# Altium integrated library Analog Devices Data Converters Analog-to-Digital Converters.IntLib: 2404 symbols (part 340 of 346)
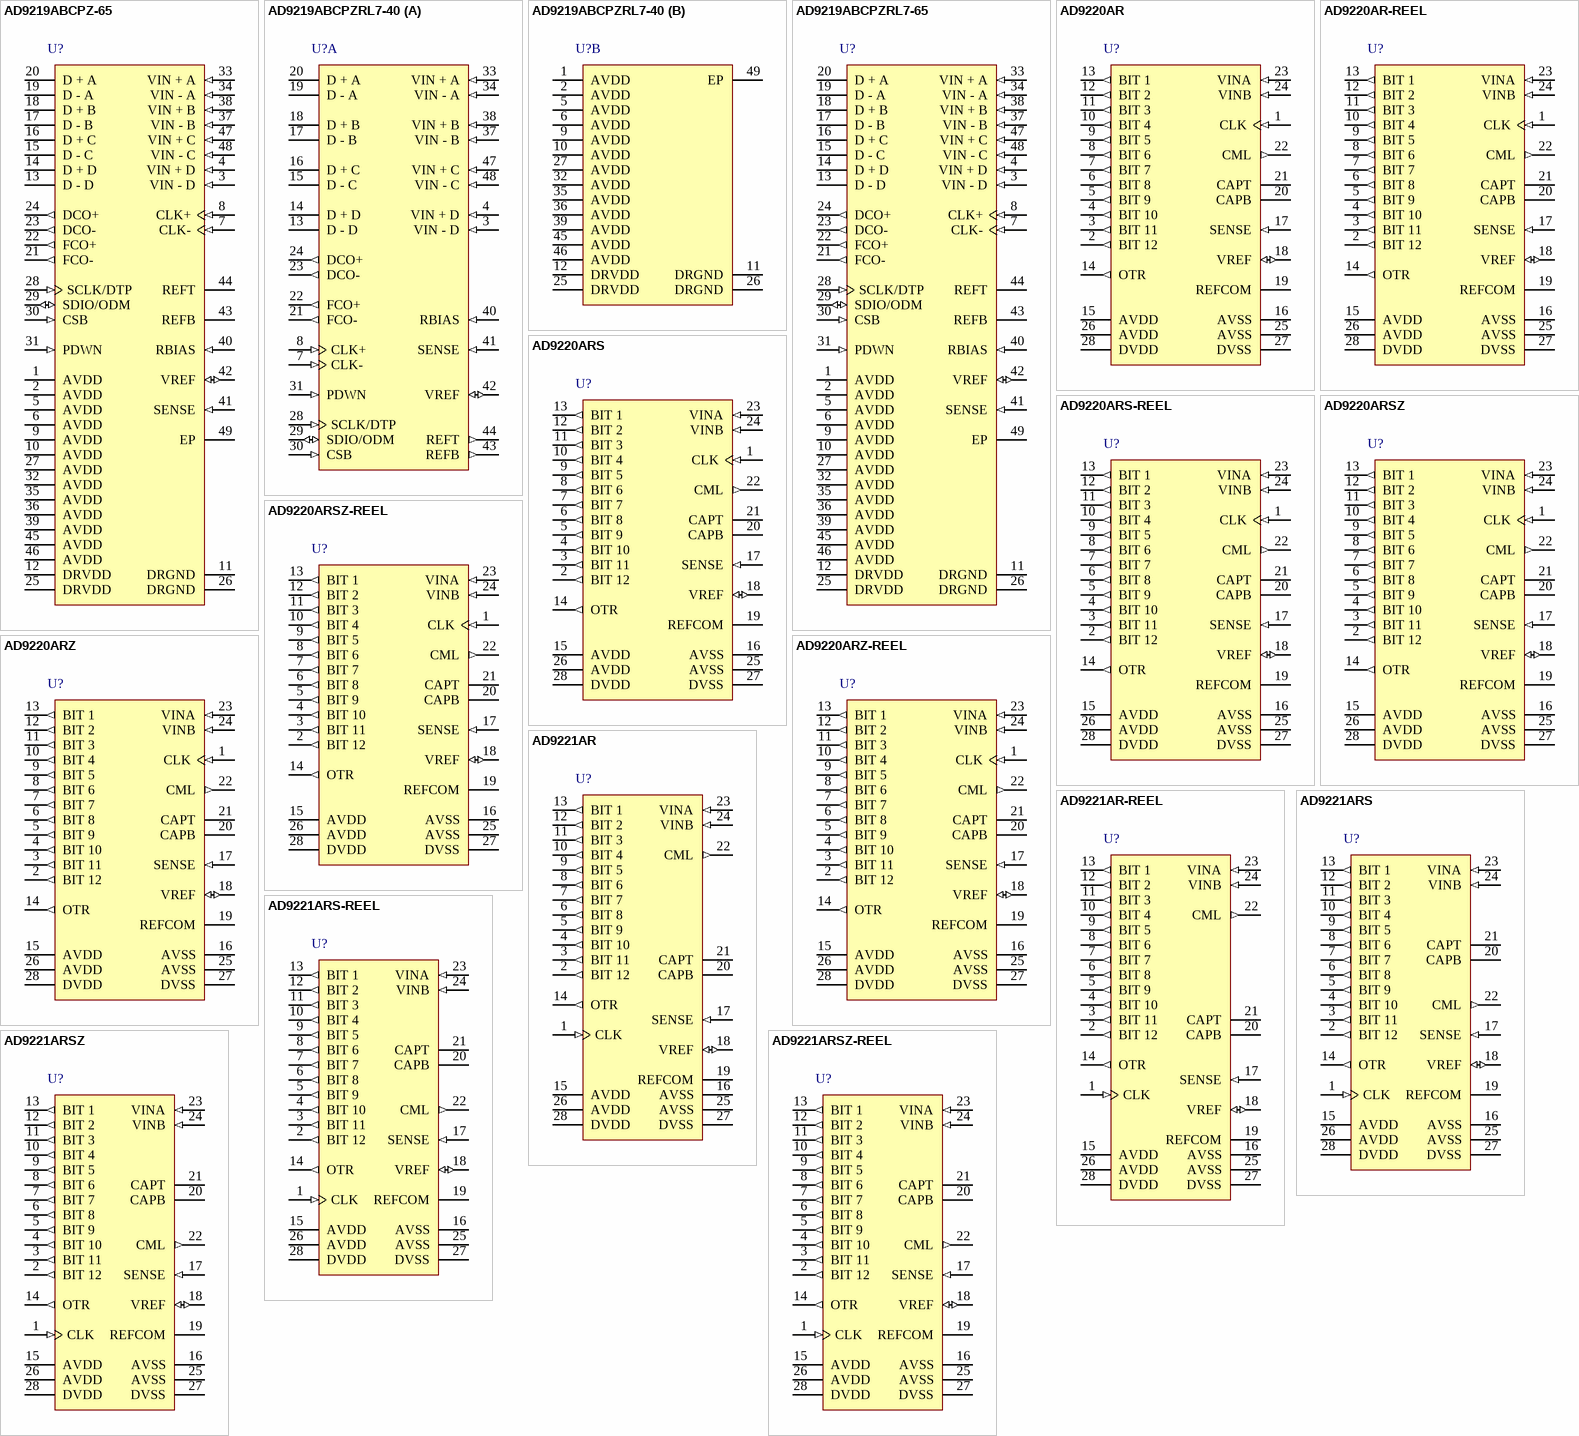
[diagram p436: symbols AD9219ABCPZ-65 to AD9221ARSZ-REEL]

## AD9220AR
designator U?
Single 12-Bit Monolithic Analog-to-Digital Converter with Parallel Interface, 10MSPS, -40 to +85 degC, RW-28, Tube; Generic Part Number: AD9220; Manufacturer: Analog Devices; PartNumber: AD9220AR; Resolution (Bits): 12; Channels: 1; Throughput Rate (SPS): 10M; Interface: Par; DatasheetVersion: Rev.E; PackageVersion: 060706-A; PackageReference: RW-28; PackageDescription: 28-Lead Standard Small Outline Package [SOIC_W]; Supplier 1: Digi-Key; Supplier Part Number 1: AD9220AR-ND; Supplier 2: Mouser; Supplier Part Number 2: 584-AD9220AR; RoHS: N; Packing: Tube; Mounting Technology: Surface Mount; Code_JEDEC: MS-013-AE; ComponentLink1Description: Manufacturer URL; ComponentLink1URL: http://www.analog.com/en/index.html; ComponentLink2Description: Datasheet; ComponentLink2URL: http://www.analog.com/static/imported-files/data_sheets/AD9221_9223_9220.pdf; ComponentLink3Description: Package Specification; ComponentLink3URL: http://www.analog.com/static/imported-files/packages/35833120341221RW_28.pdf; ComponentLink4Description: Product URL; ComponentLink4URL: http://www.analog.com/en/analog-to-digital-converters/ad-converters/ad9220/products/product.html
footprint RW-28_N (SOIC, 28-Leads, Body 17.9x7.5mm, Pitch 1.27mm, IPC Medium Density)
footprint RW-28_L (SOIC, 28-Leads, Body 17.9x7.5mm, Pitch 1.27mm, IPC High Density)
footprint RW-28_M (SOIC, 28-Leads, Body 17.9x7.5mm, Pitch 1.27mm, IPC Low Density)
pins: 1 CLK (in) "Clock Input Pin", 2 BIT 12 (out) "Least Significant Data Bit (LSB)", 3 BIT 11 (out) "Data Output Bit", 4 BIT 10 (out) "Data Output Bit", 5 BIT 9 (out) "Data Output Bit", 6 BIT 8 (out) "Data Output Bit", 7 BIT 7 (out) "Data Output Bit", 8 BIT 6 (out) "Data Output Bit", 9 BIT 5 (out) "Data Output Bit", 10 BIT 4 (out) "Data Output Bit", 11 BIT 3 (out) "Data Output Bit", 12 BIT 2 (out) "Data Output Bit", 13 BIT 1 (out) "Most Significant Data Bit (MSB)", 14 OTR (out) "Out of Range", 15 AVDD (power) "5 V Analog Supply", 16 AVSS (power) "Analog Ground", 17 SENSE (in) "Reference Select", 18 VREF (io) "Reference I/O", 19 REFCOM (power) "Reference Common", 20 CAPB "Noise Reduction Pin", 21 CAPT "Noise Reduction Pin", 22 CML (out) "Common-Mode Level (Midsupply)", 23 VINA (in) "Analog Input Pin (+)", 24 VINB (in) "Analog Input Pin (-)", 25 AVSS (power) "Analog Ground", 26 AVDD (power) "5 V Analog Supply", 27 DVSS (power) "Digital Ground", 28 DVDD (power) "3 V to 5 V Digital Supply"

## AD9220AR-REEL
designator U?
Single 12-Bit Monolithic Analog-to-Digital Converter with Parallel Interface, 10MSPS, -40 to +85 degC, RW-28, Reel; Generic Part Number: AD9220; Manufacturer: Analog Devices; PartNumber: AD9220AR-REEL; Resolution (Bits): 12; Channels: 1; Throughput Rate (SPS): 10M; Interface: Par; DatasheetVersion: Rev.E; PackageVersion: 060706-A; PackageReference: RW-28; PackageDescription: 28-Lead Standard Small Outline Package [SOIC_W]; Supplier 1: Digi-Key; Supplier Part Number 1: AD9220AR-REEL-ND; Supplier 2: Newark; Supplier Part Number 2: 09B6783; Supplier 3: Mouser; Supplier Part Number 3: 584-AD9220AR-R; RoHS: N; Packing: Reel; Mounting Technology: Surface Mount; Code_JEDEC: MS-013-AE; ComponentLink1Description: Manufacturer URL; ComponentLink1URL: http://www.analog.com/en/index.html; ComponentLink2Description: Datasheet; ComponentLink2URL: http://www.analog.com/static/imported-files/data_sheets/AD9221_9223_9220.pdf; ComponentLink3Description: Package Specification; ComponentLink3URL: http://www.analog.com/static/imported-files/packages/35833120341221RW_28.pdf; ComponentLink4Description: Product URL; ComponentLink4URL: http://www.analog.com/en/analog-to-digital-converters/ad-converters/ad9220/products/product.html
footprint RW-28_N (SOIC, 28-Leads, Body 17.9x7.5mm, Pitch 1.27mm, IPC Medium Density)
footprint RW-28_L (SOIC, 28-Leads, Body 17.9x7.5mm, Pitch 1.27mm, IPC High Density)
footprint RW-28_M (SOIC, 28-Leads, Body 17.9x7.5mm, Pitch 1.27mm, IPC Low Density)
pins: 1 CLK (in) "Clock Input Pin", 2 BIT 12 (out) "Least Significant Data Bit (LSB)", 3 BIT 11 (out) "Data Output Bit", 4 BIT 10 (out) "Data Output Bit", 5 BIT 9 (out) "Data Output Bit", 6 BIT 8 (out) "Data Output Bit", 7 BIT 7 (out) "Data Output Bit", 8 BIT 6 (out) "Data Output Bit", 9 BIT 5 (out) "Data Output Bit", 10 BIT 4 (out) "Data Output Bit", 11 BIT 3 (out) "Data Output Bit", 12 BIT 2 (out) "Data Output Bit", 13 BIT 1 (out) "Most Significant Data Bit (MSB)", 14 OTR (out) "Out of Range", 15 AVDD (power) "5 V Analog Supply", 16 AVSS (power) "Analog Ground", 17 SENSE (in) "Reference Select", 18 VREF (io) "Reference I/O", 19 REFCOM (power) "Reference Common", 20 CAPB "Noise Reduction Pin", 21 CAPT "Noise Reduction Pin", 22 CML (out) "Common-Mode Level (Midsupply)", 23 VINA (in) "Analog Input Pin (+)", 24 VINB (in) "Analog Input Pin (-)", 25 AVSS (power) "Analog Ground", 26 AVDD (power) "5 V Analog Supply", 27 DVSS (power) "Digital Ground", 28 DVDD (power) "3 V to 5 V Digital Supply"

## AD9220ARS
designator U?
Single 12-Bit Monolithic Analog-to-Digital Converter with Parallel Interface, 10MSPS, -40 to +85 degC, RS-28, Tube; Generic Part Number: AD9220; Manufacturer: Analog Devices; PartNumber: AD9220ARS; Resolution (Bits): 12; Channels: 1; Throughput Rate (SPS): 10M; Interface: Par; DatasheetVersion: Rev.E; PackageVersion: 060106-A; PackageReference: RS-28; PackageDescription: 28-Lead Shrink Small Outline Package [SSOP]; Supplier 1: Digi-Key; Supplier Part Number 1: AD9220ARS-ND; Supplier 2: Mouser; Supplier Part Number 2: 584-AD9220ARS; RoHS: N; Packing: Tube; Mounting Technology: Surface Mount; Code_JEDEC: MO-150-AH; ComponentLink1Description: Manufacturer URL; ComponentLink1URL: http://www.analog.com/en/index.html; ComponentLink2Description: Datasheet; ComponentLink2URL: http://www.analog.com/static/imported-files/data_sheets/AD9221_9223_9220.pdf; ComponentLink3Description: Package Specification; ComponentLink3URL: http://www.analog.com/static/imported-files/packages/32122249223724RS_28.pdf; ComponentLink4Description: Product URL; ComponentLink4URL: http://www.analog.com/en/analog-to-digital-converters/ad-converters/ad9220/products/product.html
footprint RS-28_N (SOP, 28-Leads, Body 10.2x5.3mm, Pitch 0.65mm, IPC Medium Density)
footprint RS-28_L (SOP, 28-Leads, Body 10.2x5.3mm, Pitch 0.65mm, IPC High Density)
footprint RS-28_M (SOP, 28-Leads, Body 10.2x5.3mm, Pitch 0.65mm, IPC Low Density)
pins: 1 CLK (in) "Clock Input Pin", 2 BIT 12 (out) "Least Significant Data Bit (LSB)", 3 BIT 11 (out) "Data Output Bit", 4 BIT 10 (out) "Data Output Bit", 5 BIT 9 (out) "Data Output Bit", 6 BIT 8 (out) "Data Output Bit", 7 BIT 7 (out) "Data Output Bit", 8 BIT 6 (out) "Data Output Bit", 9 BIT 5 (out) "Data Output Bit", 10 BIT 4 (out) "Data Output Bit", 11 BIT 3 (out) "Data Output Bit", 12 BIT 2 (out) "Data Output Bit", 13 BIT 1 (out) "Most Significant Data Bit (MSB)", 14 OTR (out) "Out of Range", 15 AVDD (power) "5 V Analog Supply", 16 AVSS (power) "Analog Ground", 17 SENSE (in) "Reference Select", 18 VREF (io) "Reference I/O", 19 REFCOM (power) "Reference Common", 20 CAPB "Noise Reduction Pin", 21 CAPT "Noise Reduction Pin", 22 CML (out) "Common-Mode Level (Midsupply)", 23 VINA (in) "Analog Input Pin (+)", 24 VINB (in) "Analog Input Pin (-)", 25 AVSS (power) "Analog Ground", 26 AVDD (power) "5 V Analog Supply", 27 DVSS (power) "Digital Ground", 28 DVDD (power) "3 V to 5 V Digital Supply"

## AD9220ARS-REEL
designator U?
Single 12-Bit Monolithic Analog-to-Digital Converter with Parallel Interface, 10MSPS, -40 to +85 degC, RS-28, Reel; Generic Part Number: AD9220; Manufacturer: Analog Devices; PartNumber: AD9220ARS-REEL; Resolution (Bits): 12; Channels: 1; Throughput Rate (SPS): 10M; Interface: Par; DatasheetVersion: Rev.E; PackageVersion: 060106-A; PackageReference: RS-28; PackageDescription: 28-Lead Shrink Small Outline Package [SSOP]; Supplier 1: Digi-Key; Supplier Part Number 1: AD9220ARS-REEL-ND; Supplier 2: Newark; Supplier Part Number 2: 98B7459; Supplier 3: Mouser; Supplier Part Number 3: 584-AD9220ARS-R; RoHS: N; Packing: Reel; Mounting Technology: Surface Mount; Code_JEDEC: MO-150-AH; ComponentLink1Description: Manufacturer URL; ComponentLink1URL: http://www.analog.com/en/index.html; ComponentLink2Description: Datasheet; ComponentLink2URL: http://www.analog.com/static/imported-files/data_sheets/AD9221_9223_9220.pdf; ComponentLink3Description: Package Specification; ComponentLink3URL: http://www.analog.com/static/imported-files/packages/32122249223724RS_28.pdf; ComponentLink4Description: Product URL; ComponentLink4URL: http://www.analog.com/en/analog-to-digital-converters/ad-converters/ad9220/products/product.html
footprint RS-28_N (SOP, 28-Leads, Body 10.2x5.3mm, Pitch 0.65mm, IPC Medium Density)
footprint RS-28_L (SOP, 28-Leads, Body 10.2x5.3mm, Pitch 0.65mm, IPC High Density)
footprint RS-28_M (SOP, 28-Leads, Body 10.2x5.3mm, Pitch 0.65mm, IPC Low Density)
pins: 1 CLK (in) "Clock Input Pin", 2 BIT 12 (out) "Least Significant Data Bit (LSB)", 3 BIT 11 (out) "Data Output Bit", 4 BIT 10 (out) "Data Output Bit", 5 BIT 9 (out) "Data Output Bit", 6 BIT 8 (out) "Data Output Bit", 7 BIT 7 (out) "Data Output Bit", 8 BIT 6 (out) "Data Output Bit", 9 BIT 5 (out) "Data Output Bit", 10 BIT 4 (out) "Data Output Bit", 11 BIT 3 (out) "Data Output Bit", 12 BIT 2 (out) "Data Output Bit", 13 BIT 1 (out) "Most Significant Data Bit (MSB)", 14 OTR (out) "Out of Range", 15 AVDD (power) "5 V Analog Supply", 16 AVSS (power) "Analog Ground", 17 SENSE (in) "Reference Select", 18 VREF (io) "Reference I/O", 19 REFCOM (power) "Reference Common", 20 CAPB "Noise Reduction Pin", 21 CAPT "Noise Reduction Pin", 22 CML (out) "Common-Mode Level (Midsupply)", 23 VINA (in) "Analog Input Pin (+)", 24 VINB (in) "Analog Input Pin (-)", 25 AVSS (power) "Analog Ground", 26 AVDD (power) "5 V Analog Supply", 27 DVSS (power) "Digital Ground", 28 DVDD (power) "3 V to 5 V Digital Supply"

## AD9220ARSZ
designator U?
Single 12-Bit Monolithic Analog-to-Digital Converter with Parallel Interface, 10MSPS, -40 to +85 degC, RS-28, Pb-Free, Tube; Generic Part Number: AD9220; Manufacturer: Analog Devices; PartNumber: AD9220ARSZ; Resolution (Bits): 12; Channels: 1; Throughput Rate (SPS): 10M; Interface: Par; DatasheetVersion: Rev.E; PackageVersion: 060106-A; PackageReference: RS-28; PackageDescription: 28-Lead Shrink Small Outline Package [SSOP]; Supplier 1: Digi-Key; Supplier Part Number 1: AD9220ARSZ-ND; Supplier 2: Farnell; Supplier Part Number 2: 2305579; Supplier 3: Newark; Supplier Part Number 3: 59K7155; Supplier 4: Mouser; Supplier Part Number 4: 584-AD9220ARSZ; RoHS: Y; Packing: Tube; Mounting Technology: Surface Mount; Code_JEDEC: MO-150-AH; ComponentLink1Description: Manufacturer URL; ComponentLink1URL: http://www.analog.com/en/index.html; ComponentLink2Description: Datasheet; ComponentLink2URL: http://www.analog.com/static/imported-files/data_sheets/AD9221_9223_9220.pdf; ComponentLink3Description: Package Specification; ComponentLink3URL: http://www.analog.com/static/imported-files/packages/32122249223724RS_28.pdf; ComponentLink4Description: Product URL; ComponentLink4URL: http://www.analog.com/en/analog-to-digital-converters/ad-converters/ad9220/products/product.html
footprint RS-28_N (SOP, 28-Leads, Body 10.2x5.3mm, Pitch 0.65mm, IPC Medium Density)
footprint RS-28_L (SOP, 28-Leads, Body 10.2x5.3mm, Pitch 0.65mm, IPC High Density)
footprint RS-28_M (SOP, 28-Leads, Body 10.2x5.3mm, Pitch 0.65mm, IPC Low Density)
pins: 1 CLK (in) "Clock Input Pin", 2 BIT 12 (out) "Least Significant Data Bit (LSB)", 3 BIT 11 (out) "Data Output Bit", 4 BIT 10 (out) "Data Output Bit", 5 BIT 9 (out) "Data Output Bit", 6 BIT 8 (out) "Data Output Bit", 7 BIT 7 (out) "Data Output Bit", 8 BIT 6 (out) "Data Output Bit", 9 BIT 5 (out) "Data Output Bit", 10 BIT 4 (out) "Data Output Bit", 11 BIT 3 (out) "Data Output Bit", 12 BIT 2 (out) "Data Output Bit", 13 BIT 1 (out) "Most Significant Data Bit (MSB)", 14 OTR (out) "Out of Range", 15 AVDD (power) "5 V Analog Supply", 16 AVSS (power) "Analog Ground", 17 SENSE (in) "Reference Select", 18 VREF (io) "Reference I/O", 19 REFCOM (power) "Reference Common", 20 CAPB "Noise Reduction Pin", 21 CAPT "Noise Reduction Pin", 22 CML (out) "Common-Mode Level (Midsupply)", 23 VINA (in) "Analog Input Pin (+)", 24 VINB (in) "Analog Input Pin (-)", 25 AVSS (power) "Analog Ground", 26 AVDD (power) "5 V Analog Supply", 27 DVSS (power) "Digital Ground", 28 DVDD (power) "3 V to 5 V Digital Supply"

## AD9220ARSZ-REEL
designator U?
Single 12-Bit Monolithic Analog-to-Digital Converter with Parallel Interface, 10MSPS, -40 to +85 degC, RS-28, Pb-Free, Reel; Generic Part Number: AD9220; Manufacturer: Analog Devices; PartNumber: AD9220ARSZ-REEL; Resolution (Bits): 12; Channels: 1; Throughput Rate (SPS): 10M; Interface: Par; DatasheetVersion: Rev.E; PackageVersion: 060106-A; PackageReference: RS-28; PackageDescription: 28-Lead Shrink Small Outline Package [SSOP]; Supplier 1: Digi-Key; Supplier Part Number 1: AD9220ARSZ-REELTR-ND; Supplier 2: Digi-Key; Supplier Part Number 2: AD9220ARSZ-REELCT-ND; Supplier 3: Digi-Key; Supplier Part Number 3: AD9220ARSZ-REELDKR-ND; Supplier 4: Mouser; Supplier Part Number 4: 584-AD9220ARSZ-R; RoHS: Y; Packing: Reel; Mounting Technology: Surface Mount; Code_JEDEC: MO-150-AH; ComponentLink1Description: Manufacturer URL; ComponentLink1URL: http://www.analog.com/en/index.html; ComponentLink2Description: Datasheet; ComponentLink2URL: http://www.analog.com/static/imported-files/data_sheets/AD9221_9223_9220.pdf; ComponentLink3Description: Package Specification; ComponentLink3URL: http://www.analog.com/static/imported-files/packages/32122249223724RS_28.pdf; ComponentLink4Description: Product URL; ComponentLink4URL: http://www.analog.com/en/analog-to-digital-converters/ad-converters/ad9220/products/product.html
footprint RS-28_N (SOP, 28-Leads, Body 10.2x5.3mm, Pitch 0.65mm, IPC Medium Density)
footprint RS-28_L (SOP, 28-Leads, Body 10.2x5.3mm, Pitch 0.65mm, IPC High Density)
footprint RS-28_M (SOP, 28-Leads, Body 10.2x5.3mm, Pitch 0.65mm, IPC Low Density)
pins: 1 CLK (in) "Clock Input Pin", 2 BIT 12 (out) "Least Significant Data Bit (LSB)", 3 BIT 11 (out) "Data Output Bit", 4 BIT 10 (out) "Data Output Bit", 5 BIT 9 (out) "Data Output Bit", 6 BIT 8 (out) "Data Output Bit", 7 BIT 7 (out) "Data Output Bit", 8 BIT 6 (out) "Data Output Bit", 9 BIT 5 (out) "Data Output Bit", 10 BIT 4 (out) "Data Output Bit", 11 BIT 3 (out) "Data Output Bit", 12 BIT 2 (out) "Data Output Bit", 13 BIT 1 (out) "Most Significant Data Bit (MSB)", 14 OTR (out) "Out of Range", 15 AVDD (power) "5 V Analog Supply", 16 AVSS (power) "Analog Ground", 17 SENSE (in) "Reference Select", 18 VREF (io) "Reference I/O", 19 REFCOM (power) "Reference Common", 20 CAPB "Noise Reduction Pin", 21 CAPT "Noise Reduction Pin", 22 CML (out) "Common-Mode Level (Midsupply)", 23 VINA (in) "Analog Input Pin (+)", 24 VINB (in) "Analog Input Pin (-)", 25 AVSS (power) "Analog Ground", 26 AVDD (power) "5 V Analog Supply", 27 DVSS (power) "Digital Ground", 28 DVDD (power) "3 V to 5 V Digital Supply"

## AD9220ARZ
designator U?
Single 12-Bit Monolithic Analog-to-Digital Converter with Parallel Interface, 10MSPS, -40 to +85 degC, RW-28, Pb-Free, Tube; Generic Part Number: AD9220; Manufacturer: Analog Devices; PartNumber: AD9220ARZ; Resolution (Bits): 12; Channels: 1; Throughput Rate (SPS): 10M; Interface: Par; DatasheetVersion: Rev.E; PackageVersion: 060706-A; PackageReference: RW-28; PackageDescription: 28-Lead Standard Small Outline Package [SOIC_W]; Supplier 1: Digi-Key; Supplier Part Number 1: AD9220ARZ-ND; Supplier 2: Newark; Supplier Part Number 2: 15P1041; Supplier 3: Newark; Supplier Part Number 3: 59K7157; Supplier 4: Mouser; Supplier Part Number 4: 584-AD9220ARZ; RoHS: Y; Packing: Tube; Mounting Technology: Surface Mount; Code_JEDEC: MS-013-AE; ComponentLink1Description: Manufacturer URL; ComponentLink1URL: http://www.analog.com/en/index.html; ComponentLink2Description: Datasheet; ComponentLink2URL: http://www.analog.com/static/imported-files/data_sheets/AD9221_9223_9220.pdf; ComponentLink3Description: Package Specification; ComponentLink3URL: http://www.analog.com/static/imported-files/packages/35833120341221RW_28.pdf; ComponentLink4Description: Product URL; ComponentLink4URL: http://www.analog.com/en/analog-to-digital-converters/ad-converters/ad9220/products/product.html
footprint RW-28_N (SOIC, 28-Leads, Body 17.9x7.5mm, Pitch 1.27mm, IPC Medium Density)
footprint RW-28_L (SOIC, 28-Leads, Body 17.9x7.5mm, Pitch 1.27mm, IPC High Density)
footprint RW-28_M (SOIC, 28-Leads, Body 17.9x7.5mm, Pitch 1.27mm, IPC Low Density)
pins: 1 CLK (in) "Clock Input Pin", 2 BIT 12 (out) "Least Significant Data Bit (LSB)", 3 BIT 11 (out) "Data Output Bit", 4 BIT 10 (out) "Data Output Bit", 5 BIT 9 (out) "Data Output Bit", 6 BIT 8 (out) "Data Output Bit", 7 BIT 7 (out) "Data Output Bit", 8 BIT 6 (out) "Data Output Bit", 9 BIT 5 (out) "Data Output Bit", 10 BIT 4 (out) "Data Output Bit", 11 BIT 3 (out) "Data Output Bit", 12 BIT 2 (out) "Data Output Bit", 13 BIT 1 (out) "Most Significant Data Bit (MSB)", 14 OTR (out) "Out of Range", 15 AVDD (power) "5 V Analog Supply", 16 AVSS (power) "Analog Ground", 17 SENSE (in) "Reference Select", 18 VREF (io) "Reference I/O", 19 REFCOM (power) "Reference Common", 20 CAPB "Noise Reduction Pin", 21 CAPT "Noise Reduction Pin", 22 CML (out) "Common-Mode Level (Midsupply)", 23 VINA (in) "Analog Input Pin (+)", 24 VINB (in) "Analog Input Pin (-)", 25 AVSS (power) "Analog Ground", 26 AVDD (power) "5 V Analog Supply", 27 DVSS (power) "Digital Ground", 28 DVDD (power) "3 V to 5 V Digital Supply"

## AD9220ARZ-REEL
designator U?
Single 12-Bit Monolithic Analog-to-Digital Converter with Parallel Interface, 10MSPS, -40 to +85 degC, RW-28, Pb-Free, Reel; Generic Part Number: AD9220; Manufacturer: Analog Devices; PartNumber: AD9220ARZ-REEL; Resolution (Bits): 12; Channels: 1; Throughput Rate (SPS): 10M; Interface: Par; DatasheetVersion: Rev.E; PackageVersion: 060706-A; PackageReference: RW-28; PackageDescription: 28-Lead Standard Small Outline Package [SOIC_W]; Supplier 1: Digi-Key; Supplier Part Number 1: AD9220ARZ-REEL-ND; Supplier 2: Newark; Supplier Part Number 2: 59K7158; Supplier 3: Mouser; Supplier Part Number 3: 584-AD9220ARZ-R; RoHS: Y; Packing: Reel; Mounting Technology: Surface Mount; Code_JEDEC: MS-013-AE; ComponentLink1Description: Manufacturer URL; ComponentLink1URL: http://www.analog.com/en/index.html; ComponentLink2Description: Datasheet; ComponentLink2URL: http://www.analog.com/static/imported-files/data_sheets/AD9221_9223_9220.pdf; ComponentLink3Description: Package Specification; ComponentLink3URL: http://www.analog.com/static/imported-files/packages/35833120341221RW_28.pdf; ComponentLink4Description: Product URL; ComponentLink4URL: http://www.analog.com/en/analog-to-digital-converters/ad-converters/ad9220/products/product.html
footprint RW-28_N (SOIC, 28-Leads, Body 17.9x7.5mm, Pitch 1.27mm, IPC Medium Density)
footprint RW-28_L (SOIC, 28-Leads, Body 17.9x7.5mm, Pitch 1.27mm, IPC High Density)
footprint RW-28_M (SOIC, 28-Leads, Body 17.9x7.5mm, Pitch 1.27mm, IPC Low Density)
pins: 1 CLK (in) "Clock Input Pin", 2 BIT 12 (out) "Least Significant Data Bit (LSB)", 3 BIT 11 (out) "Data Output Bit", 4 BIT 10 (out) "Data Output Bit", 5 BIT 9 (out) "Data Output Bit", 6 BIT 8 (out) "Data Output Bit", 7 BIT 7 (out) "Data Output Bit", 8 BIT 6 (out) "Data Output Bit", 9 BIT 5 (out) "Data Output Bit", 10 BIT 4 (out) "Data Output Bit", 11 BIT 3 (out) "Data Output Bit", 12 BIT 2 (out) "Data Output Bit", 13 BIT 1 (out) "Most Significant Data Bit (MSB)", 14 OTR (out) "Out of Range", 15 AVDD (power) "5 V Analog Supply", 16 AVSS (power) "Analog Ground", 17 SENSE (in) "Reference Select", 18 VREF (io) "Reference I/O", 19 REFCOM (power) "Reference Common", 20 CAPB "Noise Reduction Pin", 21 CAPT "Noise Reduction Pin", 22 CML (out) "Common-Mode Level (Midsupply)", 23 VINA (in) "Analog Input Pin (+)", 24 VINB (in) "Analog Input Pin (-)", 25 AVSS (power) "Analog Ground", 26 AVDD (power) "5 V Analog Supply", 27 DVSS (power) "Digital Ground", 28 DVDD (power) "3 V to 5 V Digital Supply"